# Altium schematic symbol library Regulator_Linear.SchLib: 1620 symbols (part 7 of 16)
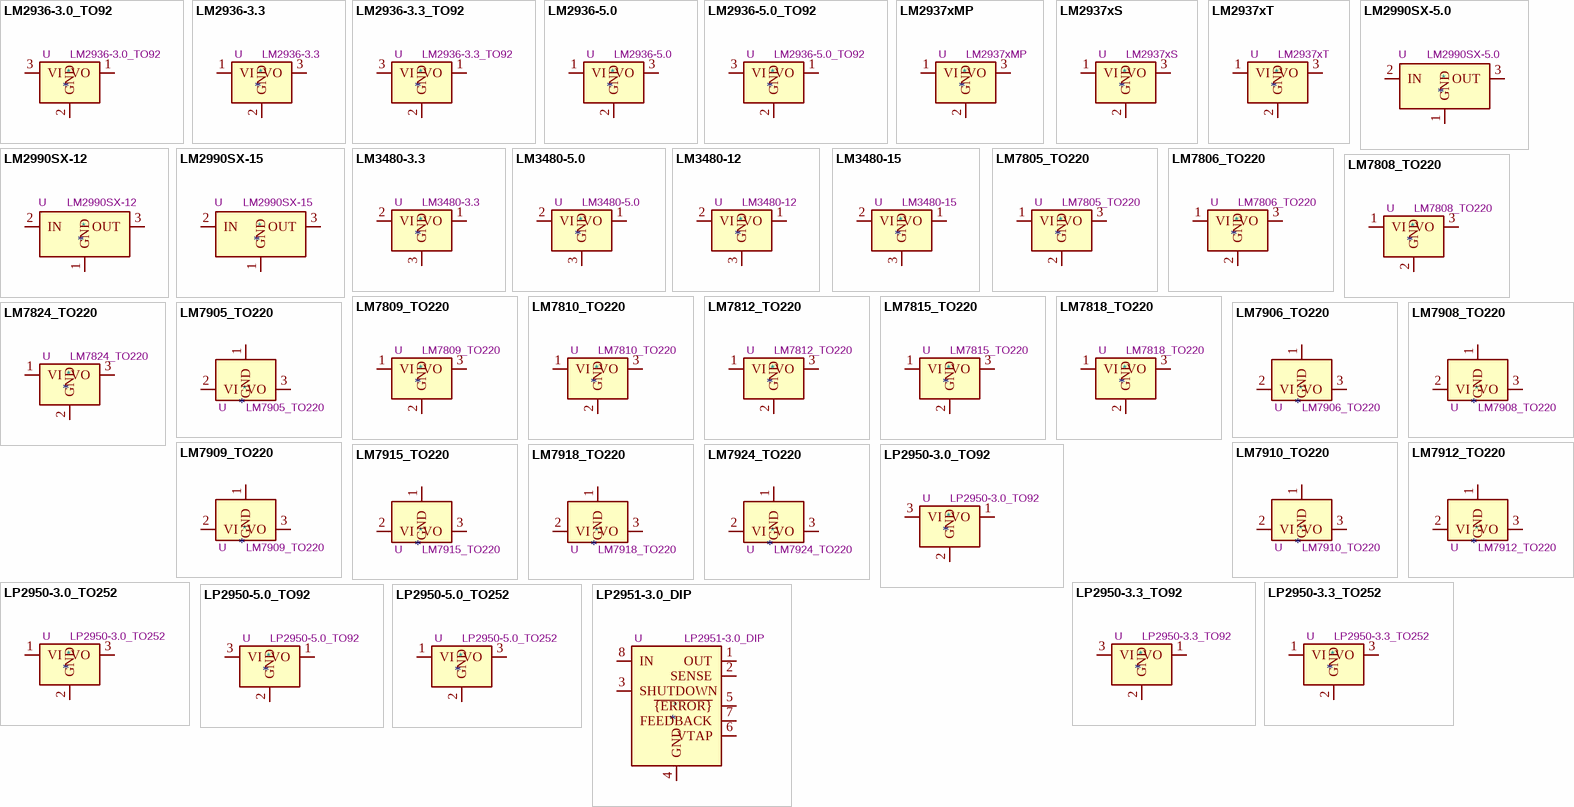
[diagram p46: symbols LM2936-3.0_TO92 to LP2951-3.0_DIP]

## LM7915_TO220
designator *  value LM7915_TO220  Reference: U
Negative 1A 35V Linear Regulator, Fixed Output 15V, TO-220; ki_keywords: Voltage Regulator 1A Negative; ki_fp_filters: TO?220*; Footprint: Package_TO_SOT_THT:TO-220-3_Vertical; Datasheet: https://www.onsemi.com/pub/Collateral/MC7900-D.PDF; Description_: Negative 1A 35V Linear Regulator, Fixed Output 15V, TO-220
pins: 1 GND, 2 VI, 3 VO

## LM7918_TO220
designator *  value LM7918_TO220  Reference: U
Negative 1A 35V Linear Regulator, Fixed Output 18V, TO-220; ki_keywords: Voltage Regulator 1A Negative; ki_fp_filters: TO?220*; Footprint: Package_TO_SOT_THT:TO-220-3_Vertical; Datasheet: https://www.onsemi.com/pub/Collateral/MC7900-D.PDF; Description_: Negative 1A 35V Linear Regulator, Fixed Output 18V, TO-220
pins: 1 GND, 2 VI, 3 VO

## LM7924_TO220
designator *  value LM7924_TO220  Reference: U
Negative 1A 35V Linear Regulator, Fixed Output 24V, TO-220; ki_keywords: Voltage Regulator 1A Negative; ki_fp_filters: TO?220*; Footprint: Package_TO_SOT_THT:TO-220-3_Vertical; Datasheet: https://www.onsemi.com/pub/Collateral/MC7900-D.PDF; Description_: Negative 1A 35V Linear Regulator, Fixed Output 24V, TO-220
pins: 1 GND, 2 VI, 3 VO

## LP2950-3.0_TO92
designator *  value LP2950-3.0_TO92  Reference: U
Positive 100mA 30V Linear Micropower Voltage Regulator, Fixed Output 3.0V, TO-92; ki_keywords: Micropower Voltage Regulator 100mA Positive; ki_fp_filters: TO?92*; Footprint: Package_TO_SOT_THT:TO-92_Inline; Datasheet: http://www.ti.com/lit/ds/symlink/lp2950.pdf; Description_: Positive 100mA 30V Linear Micropower Voltage Regulator, Fixed Output 3.0V, TO-92
pins: 1 VO, 2 GND, 3 VI

## LP2950-3.0_TO252
designator *  value LP2950-3.0_TO252  Reference: U
Positive 100mA 30V Linear Micropower Voltage Regulator, Fixed Output 3.0V, TO-252; ki_keywords: Micropower Voltage Regulator 100mA Positive; ki_fp_filters: TO?252*; Footprint: Package_TO_SOT_SMD:TO-252-2; Datasheet: http://www.ti.com/lit/ds/symlink/lp2950.pdf; Description_: Positive 100mA 30V Linear Micropower Voltage Regulator, Fixed Output 3.0V, TO-252
pins: 1 VI, 2 GND, 3 VO

## LP2950-3.3_TO92
designator *  value LP2950-3.3_TO92  Reference: U
Positive 100mA 30V Linear Micropower Voltage Regulator, Fixed Output 3.3V, TO-92; ki_keywords: Micropower Voltage Regulator 100mA Positive; ki_fp_filters: TO?92*; Footprint: Package_TO_SOT_THT:TO-92_Inline; Datasheet: http://www.ti.com/lit/ds/symlink/lp2950.pdf; Description_: Positive 100mA 30V Linear Micropower Voltage Regulator, Fixed Output 3.3V, TO-92
pins: 1 VO, 2 GND, 3 VI

## LP2950-3.3_TO252
designator *  value LP2950-3.3_TO252  Reference: U
Positive 100mA 30V Linear Micropower Voltage Regulator, Fixed Output 3.3V, TO-252; ki_keywords: Micropower Voltage Regulator 100mA Positive; ki_fp_filters: TO?252*; Footprint: Package_TO_SOT_SMD:TO-252-2; Datasheet: http://www.ti.com/lit/ds/symlink/lp2950.pdf; Description_: Positive 100mA 30V Linear Micropower Voltage Regulator, Fixed Output 3.3V, TO-252
pins: 1 VI, 2 GND, 3 VO

## LP2950-5.0_TO92
designator *  value LP2950-5.0_TO92  Reference: U
Micropower Voltage Regulators with Shutdown, 100mA, Fixed Output 5.0V, TO-92; ki_keywords: Micropower Voltage Regulator 100mA Positive; ki_fp_filters: TO?92*; Footprint: Package_TO_SOT_THT:TO-92_Inline; Datasheet: http://www.ti.com/lit/ds/symlink/lp2951.pdf; Description_: Micropower Voltage Regulators with Shutdown, 100mA, Fixed Output 5.0V, TO-92
pins: 1 VO, 2 GND, 3 VI

## LP2950-5.0_TO252
designator *  value LP2950-5.0_TO252  Reference: U
Positive 100mA 30V Linear Micropower Voltage Regulator, Fixed Output 5.0V, TO-252; ki_keywords: Micropower Voltage Regulator 100mA Positive; ki_fp_filters: TO?252*; Footprint: Package_TO_SOT_SMD:TO-252-2; Datasheet: http://www.ti.com/lit/ds/symlink/lp2950.pdf; Description_: Positive 100mA 30V Linear Micropower Voltage Regulator, Fixed Output 5.0V, TO-252
pins: 1 VI, 2 GND, 3 VO

## LP2951-3.0_DIP
designator *  value LP2951-3.0_DIP  Reference: U
Micropower Voltage Regulators with Shutdown, 100mA, Fixed Output 3.0V, LDO, DIP-8; ki_fp_filters: DIP*W7.62mm*; Footprint: Package_DIP:DIP-8_W7.62mm; Datasheet: http://www.ti.com/lit/ds/symlink/lp2951.pdf; Description_: Micropower Voltage Regulators with Shutdown, 100mA, Fixed Output 3.0V, LDO, DIP-8; ki_keywords: Micropower Voltage Regulators with Shutdown
pins: 1 OUT, 2 SENSE, 3 SHUTDOWN, 4 GND, 5 ~{{ERROR}}, 6 VTAP, 7 FEEDBACK, 8 IN

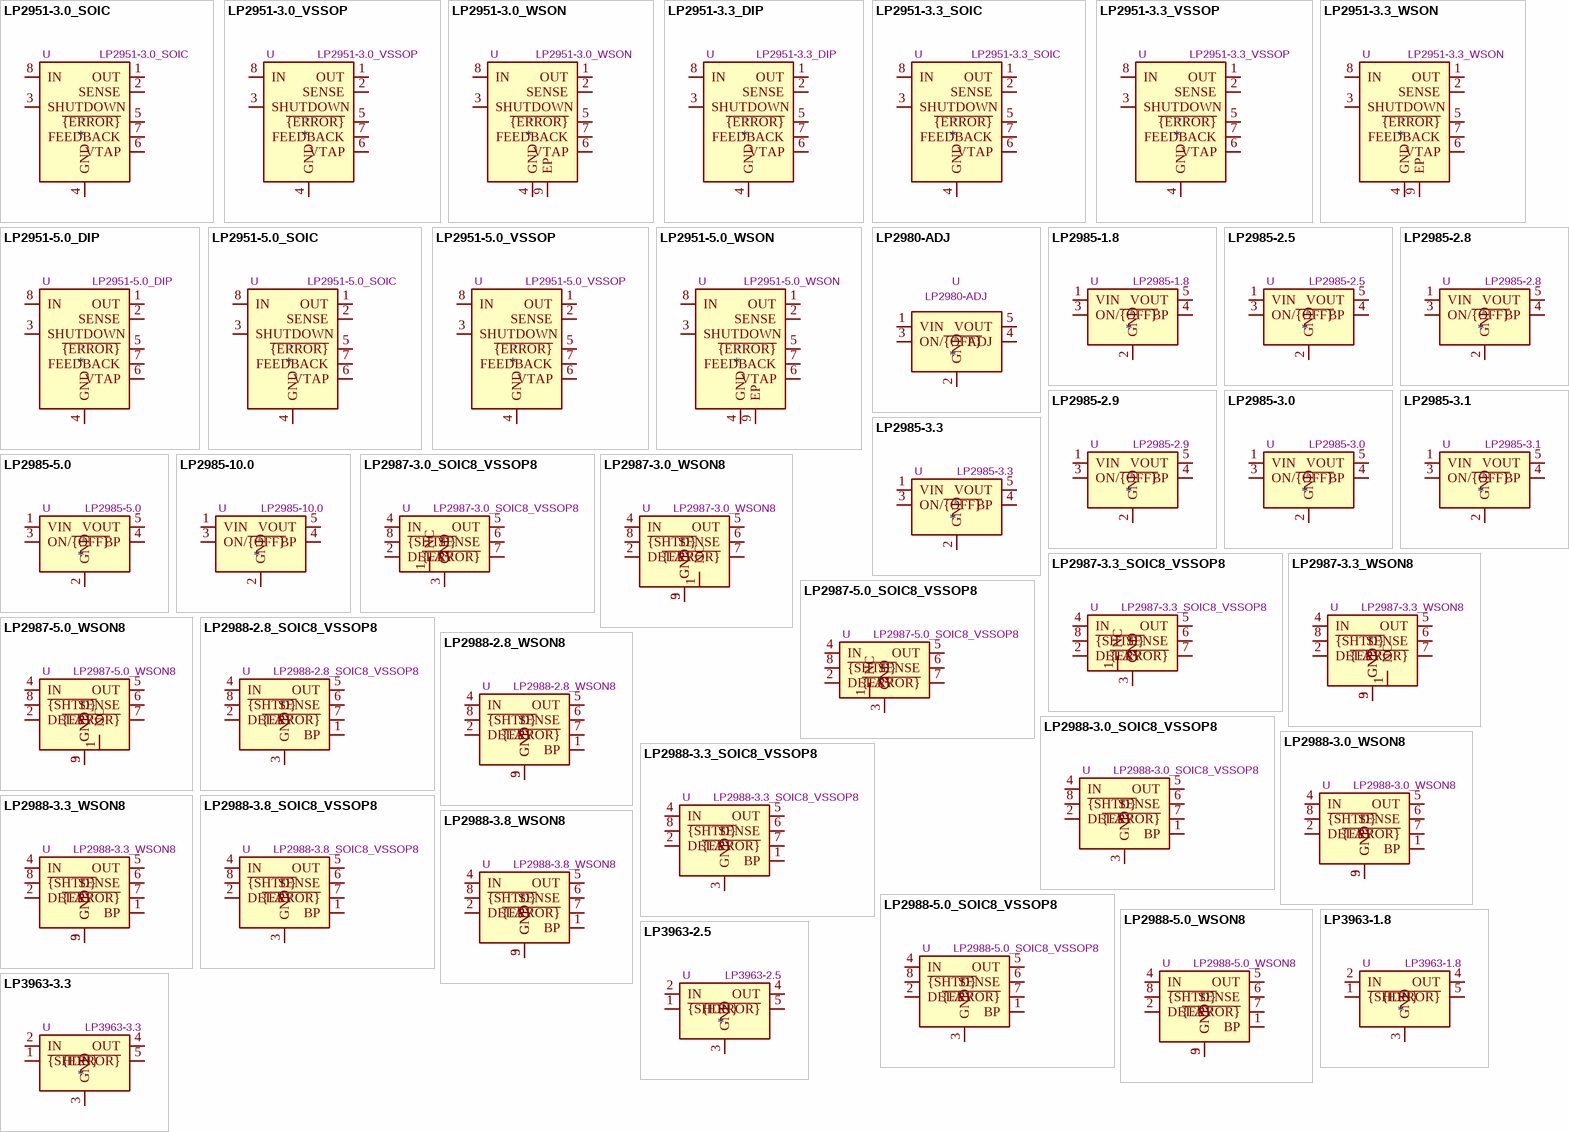
[diagram p16: symbols LP2951-3.0_SOIC to LP3963-3.3]

## LP2951-3.0_SOIC
designator *  value LP2951-3.0_SOIC  Reference: U
Micropower Voltage Regulators with Shutdown, 100mA, Fixed Output 3.0V, LDO, SOIC-8; ki_fp_filters: SOIC*3.9x4.9mm*P1.27mm*; Footprint: Package_SO:SOIC-8_3.9x4.9mm_P1.27mm; Datasheet: http://www.ti.com/lit/ds/symlink/lp2951.pdf; Description_: Micropower Voltage Regulators with Shutdown, 100mA, Fixed Output 3.0V, LDO, SOIC-8; ki_keywords: Micropower Voltage Regulators with Shutdown
pins: 1 OUT, 2 SENSE, 3 SHUTDOWN, 4 GND, 5 ~{{ERROR}}, 6 VTAP, 7 FEEDBACK, 8 IN

## LP2951-3.0_VSSOP
designator *  value LP2951-3.0_VSSOP  Reference: U
Micropower Voltage Regulators with Shutdown, 100mA, Fixed Output 3.0V, LDO, VSSOP-8; ki_fp_filters: VSSOP*3x3mm*P0.65mm*; Footprint: Package_SO:VSSOP-8_3x3mm_P0.65mm; Datasheet: http://www.ti.com/lit/ds/symlink/lp2951.pdf; Description_: Micropower Voltage Regulators with Shutdown, 100mA, Fixed Output 3.0V, LDO, VSSOP-8; ki_keywords: Micropower Voltage Regulators with Shutdown
pins: 1 OUT, 2 SENSE, 3 SHUTDOWN, 4 GND, 5 ~{{ERROR}}, 6 VTAP, 7 FEEDBACK, 8 IN

## LP2951-3.0_WSON
designator *  value LP2951-3.0_WSON  Reference: U
Micropower Voltage Regulators with Shutdown, 100mA, Fixed Output 3.0V, LDO, WSON-8; ki_fp_filters: WSON*1EP*3x3mm*P0.5mm*; Footprint: Package_SON:WSON-8-1EP_3x3mm_P0.5mm_EP1.2x2mm; Datasheet: http://www.ti.com/lit/ds/symlink/lp2951.pdf; Description_: Micropower Voltage Regulators with Shutdown, 100mA, Fixed Output 3.0V, LDO, WSON-8; ki_keywords: Micropower Voltage Regulators with Shutdown
pins: 1 OUT, 2 SENSE, 3 SHUTDOWN, 4 GND, 5 ~{{ERROR}}, 6 VTAP, 7 FEEDBACK, 8 IN, 9 EP

## LP2951-3.3_DIP
designator *  value LP2951-3.3_DIP  Reference: U
Micropower Voltage Regulators with Shutdown, 100mA, Fixed Output 3.3V, LDO, DIP-8; ki_fp_filters: DIP*W7.62mm*; Footprint: Package_DIP:DIP-8_W7.62mm; Datasheet: http://www.ti.com/lit/ds/symlink/lp2951.pdf; Description_: Micropower Voltage Regulators with Shutdown, 100mA, Fixed Output 3.3V, LDO, DIP-8; ki_keywords: Micropower Voltage Regulators with Shutdown
pins: 1 OUT, 2 SENSE, 3 SHUTDOWN, 4 GND, 5 ~{{ERROR}}, 6 VTAP, 7 FEEDBACK, 8 IN

## LP2951-3.3_SOIC
designator *  value LP2951-3.3_SOIC  Reference: U
Micropower Voltage Regulators with Shutdown, 100mA, Fixed Output 3.3V, LDO, SOIC-8; ki_fp_filters: SOIC*3.9x4.9mm*P1.27mm*; Footprint: Package_SO:SOIC-8_3.9x4.9mm_P1.27mm; Datasheet: http://www.ti.com/lit/ds/symlink/lp2951.pdf; Description_: Micropower Voltage Regulators with Shutdown, 100mA, Fixed Output 3.3V, LDO, SOIC-8; ki_keywords: Micropower Voltage Regulators with Shutdown
pins: 1 OUT, 2 SENSE, 3 SHUTDOWN, 4 GND, 5 ~{{ERROR}}, 6 VTAP, 7 FEEDBACK, 8 IN

## LP2951-3.3_VSSOP
designator *  value LP2951-3.3_VSSOP  Reference: U
Micropower Voltage Regulators with Shutdown, 100mA, Fixed Output 3.3V, LDO, VSSOP-8; ki_fp_filters: VSSOP*3x3mm*P0.65mm*; Footprint: Package_SO:VSSOP-8_3x3mm_P0.65mm; Datasheet: http://www.ti.com/lit/ds/symlink/lp2951.pdf; Description_: Micropower Voltage Regulators with Shutdown, 100mA, Fixed Output 3.3V, LDO, VSSOP-8; ki_keywords: Micropower Voltage Regulators with Shutdown
pins: 1 OUT, 2 SENSE, 3 SHUTDOWN, 4 GND, 5 ~{{ERROR}}, 6 VTAP, 7 FEEDBACK, 8 IN

## LP2951-3.3_WSON
designator *  value LP2951-3.3_WSON  Reference: U
Micropower Voltage Regulators with Shutdown, 100mA, Fixed Output 3.3V, LDO, WSON-8; ki_fp_filters: WSON*1EP*3x3mm*P0.5mm*; Footprint: Package_SON:WSON-8-1EP_3x3mm_P0.5mm_EP1.2x2mm; Datasheet: http://www.ti.com/lit/ds/symlink/lp2951.pdf; Description_: Micropower Voltage Regulators with Shutdown, 100mA, Fixed Output 3.3V, LDO, WSON-8; ki_keywords: Micropower Voltage Regulators with Shutdown
pins: 1 OUT, 2 SENSE, 3 SHUTDOWN, 4 GND, 5 ~{{ERROR}}, 6 VTAP, 7 FEEDBACK, 8 IN, 9 EP

## LP2951-5.0_DIP
designator *  value LP2951-5.0_DIP  Reference: U
Micropower Voltage Regulators with Shutdown, 100mA, Fixed Output 5.0V, LDO, DIP-8; ki_fp_filters: DIP*W7.62mm*; Footprint: Package_DIP:DIP-8_W7.62mm; Datasheet: http://www.ti.com/lit/ds/symlink/lp2951.pdf; Description_: Micropower Voltage Regulators with Shutdown, 100mA, Fixed Output 5.0V, LDO, DIP-8; ki_keywords: Micropower Voltage Regulators with Shutdown
pins: 1 OUT, 2 SENSE, 3 SHUTDOWN, 4 GND, 5 ~{{ERROR}}, 6 VTAP, 7 FEEDBACK, 8 IN

## LP2951-5.0_SOIC
designator *  value LP2951-5.0_SOIC  Reference: U
Micropower Voltage Regulators with Shutdown, 100mA, Fixed Output 5.0V, LDO, SOIC-8; ki_fp_filters: SOIC*3.9x4.9mm*P1.27mm*; Footprint: Package_SO:SOIC-8_3.9x4.9mm_P1.27mm; Datasheet: http://www.ti.com/lit/ds/symlink/lp2951.pdf; Description_: Micropower Voltage Regulators with Shutdown, 100mA, Fixed Output 5.0V, LDO, SOIC-8; ki_keywords: Micropower Voltage Regulators with Shutdown
pins: 1 OUT, 2 SENSE, 3 SHUTDOWN, 4 GND, 5 ~{{ERROR}}, 6 VTAP, 7 FEEDBACK, 8 IN

## LP2951-5.0_VSSOP
designator *  value LP2951-5.0_VSSOP  Reference: U
Micropower Voltage Regulators with Shutdown, 100mA, Fixed Output 5.0V, LDO, VSSOP-8; ki_fp_filters: VSSOP*3x3mm*P0.65mm*; Footprint: Package_SO:VSSOP-8_3x3mm_P0.65mm; Datasheet: http://www.ti.com/lit/ds/symlink/lp2951.pdf; Description_: Micropower Voltage Regulators with Shutdown, 100mA, Fixed Output 5.0V, LDO, VSSOP-8; ki_keywords: Micropower Voltage Regulators with Shutdown
pins: 1 OUT, 2 SENSE, 3 SHUTDOWN, 4 GND, 5 ~{{ERROR}}, 6 VTAP, 7 FEEDBACK, 8 IN

## LP2951-5.0_WSON
designator *  value LP2951-5.0_WSON  Reference: U
Micropower Voltage Regulators with Shutdown, 100mA, Fixed Output 5.0V, LDO, WSON-8; ki_fp_filters: WSON*1EP*3x3mm*P0.5mm*; Footprint: Package_SON:WSON-8-1EP_3x3mm_P0.5mm_EP1.2x2mm; Datasheet: http://www.ti.com/lit/ds/symlink/lp2951.pdf; Description_: Micropower Voltage Regulators with Shutdown, 100mA, Fixed Output 5.0V, LDO, WSON-8; ki_keywords: Micropower Voltage Regulators with Shutdown
pins: 1 OUT, 2 SENSE, 3 SHUTDOWN, 4 GND, 5 ~{{ERROR}}, 6 VTAP, 7 FEEDBACK, 8 IN, 9 EP

## LP2980-ADJ
designator *  value LP2980-ADJ  Reference: U
50mA 15V Low-noise Low-dropout Regulator, 1.23-15V adjustable output voltage, SOT-23-5; ki_keywords: LDO Voltage Regulator 50mA Positive; ki_fp_filters: SOT?23*; Footprint: Package_TO_SOT_SMD:SOT-23-5; Datasheet: http://www.ti.com/lit/ds/symlink/lp2980-adj.pdf; Description_: 50mA 15V Low-noise Low-dropout Regulator, 1.23-15V adjustable output voltage, SOT-23-5
pins: 1 VIN, 2 GND, 3 ON/~{{OFF}}, 4 ADJ, 5 VOUT

## LP2985-1.8
designator *  value LP2985-1.8  Reference: U
150mA 16V Low-noise Low-dropout Regulator With Shutdown, 1.8V output voltage, SOT-23-5; ki_keywords: LDO regulator linear  SOT-23-5; ki_fp_filters: SOT?23*; Footprint: Package_TO_SOT_SMD:SOT-23-5; Datasheet: http://www.ti.com/lit/ds/symlink/lp2985.pdf; Description_: 150mA 16V Low-noise Low-dropout Regulator With Shutdown, 1.8V output voltage, SOT-23-5
pins: 1 VIN, 2 GND, 3 ON/~{{OFF}}, 4 BP, 5 VOUT

## LP2985-2.5
designator *  value LP2985-2.5  Reference: U
150mA 16V Low-noise Low-dropout Regulator With Shutdown, 2.5V output voltage, SOT-23-5; ki_keywords: LDO regulator linear  SOT-23-5; ki_fp_filters: SOT?23*; Footprint: Package_TO_SOT_SMD:SOT-23-5; Datasheet: http://www.ti.com/lit/ds/symlink/lp2985.pdf; Description_: 150mA 16V Low-noise Low-dropout Regulator With Shutdown, 2.5V output voltage, SOT-23-5
pins: 1 VIN, 2 GND, 3 ON/~{{OFF}}, 4 BP, 5 VOUT

## LP2985-2.8
designator *  value LP2985-2.8  Reference: U
150mA 16V Low-noise Low-dropout Regulator With Shutdown, 2.8V output voltage, SOT-23-5; ki_keywords: LDO regulator linear  SOT-23-5; ki_fp_filters: SOT?23*; Footprint: Package_TO_SOT_SMD:SOT-23-5; Datasheet: http://www.ti.com/lit/ds/symlink/lp2985.pdf; Description_: 150mA 16V Low-noise Low-dropout Regulator With Shutdown, 2.8V output voltage, SOT-23-5
pins: 1 VIN, 2 GND, 3 ON/~{{OFF}}, 4 BP, 5 VOUT

## LP2985-2.9
designator *  value LP2985-2.9  Reference: U
150mA 16V Low-noise Low-dropout Regulator With Shutdown, 2.9V output voltage, SOT-23-5; ki_keywords: LDO regulator linear  SOT-23-5; ki_fp_filters: SOT?23*; Footprint: Package_TO_SOT_SMD:SOT-23-5; Datasheet: http://www.ti.com/lit/ds/symlink/lp2985.pdf; Description_: 150mA 16V Low-noise Low-dropout Regulator With Shutdown, 2.9V output voltage, SOT-23-5
pins: 1 VIN, 2 GND, 3 ON/~{{OFF}}, 4 BP, 5 VOUT

## LP2985-3.0
designator *  value LP2985-3.0  Reference: U
150mA 16V Low-noise Low-dropout Regulator With Shutdown, 3.0V output voltage, SOT-23-5; ki_keywords: LDO regulator linear  SOT-23-5; ki_fp_filters: SOT?23*; Footprint: Package_TO_SOT_SMD:SOT-23-5; Datasheet: http://www.ti.com/lit/ds/symlink/lp2985.pdf; Description_: 150mA 16V Low-noise Low-dropout Regulator With Shutdown, 3.0V output voltage, SOT-23-5
pins: 1 VIN, 2 GND, 3 ON/~{{OFF}}, 4 BP, 5 VOUT

## LP2985-3.1
designator *  value LP2985-3.1  Reference: U
150mA 16V Low-noise Low-dropout Regulator With Shutdown, 3.1V output voltage, SOT-23-5; ki_keywords: LDO regulator linear  SOT-23-5; ki_fp_filters: SOT?23*; Footprint: Package_TO_SOT_SMD:SOT-23-5; Datasheet: http://www.ti.com/lit/ds/symlink/lp2985.pdf; Description_: 150mA 16V Low-noise Low-dropout Regulator With Shutdown, 3.1V output voltage, SOT-23-5
pins: 1 VIN, 2 GND, 3 ON/~{{OFF}}, 4 BP, 5 VOUT

## LP2985-3.3
designator *  value LP2985-3.3  Reference: U
150mA 16V Low-noise Low-dropout Regulator With Shutdown, 3.3V output voltage, SOT-23-5; ki_keywords: LDO regulator linear  SOT-23-5; ki_fp_filters: SOT?23*; Footprint: Package_TO_SOT_SMD:SOT-23-5; Datasheet: http://www.ti.com/lit/ds/symlink/lp2985.pdf; Description_: 150mA 16V Low-noise Low-dropout Regulator With Shutdown, 3.3V output voltage, SOT-23-5
pins: 1 VIN, 2 GND, 3 ON/~{{OFF}}, 4 BP, 5 VOUT

## LP2985-5.0
designator *  value LP2985-5.0  Reference: U
150mA 16V Low-noise Low-dropout Regulator With Shutdown, 5.0V output voltage, SOT-23-5; ki_keywords: LDO regulator linear  SOT-23-5; ki_fp_filters: SOT?23*; Footprint: Package_TO_SOT_SMD:SOT-23-5; Datasheet: http://www.ti.com/lit/ds/symlink/lp2985.pdf; Description_: 150mA 16V Low-noise Low-dropout Regulator With Shutdown, 5.0V output voltage, SOT-23-5
pins: 1 VIN, 2 GND, 3 ON/~{{OFF}}, 4 BP, 5 VOUT

## LP2985-10.0
designator *  value LP2985-10.0  Reference: U
150mA 16V Low-noise Low-dropout Regulator With Shutdown, 10.0V output voltage, SOT-23-5; ki_keywords: LDO regulator linear  SOT-23-5; ki_fp_filters: SOT?23*; Footprint: Package_TO_SOT_SMD:SOT-23-5; Datasheet: http://www.ti.com/lit/ds/symlink/lp2985.pdf; Description_: 150mA 16V Low-noise Low-dropout Regulator With Shutdown, 10.0V output voltage, SOT-23-5
pins: 1 VIN, 2 GND, 3 ON/~{{OFF}}, 4 BP, 5 VOUT

## LP2987-3.0_SOIC8_VSSOP8
designator *  value LP2987-3.0_SOIC8_VSSOP8  Reference: U
200mA Linear LDO Regulator, MicroPower, Fixed Output 3.0V, SO8/MSOP8; ki_keywords: Linear LDO Regulator 200mA 5V; ki_fp_filters: MSOP*3x3mm*P0.65mm* SOIC*3.9x4.9mm*P1.27mm*; Datasheet: http://www.ti.com/lit/ds/symlink/lp2987.pdf; Description_: 200mA Linear LDO Regulator, MicroPower, Fixed Output 3.0V, SO8/MSOP8
pins: 1 NC, 2 DELAY, 3 GND, 4 IN, 5 OUT, 6 SENSE, 7 ~{{ERROR}}, 8 ~{{SHTD}}

## LP2987-3.0_WSON8
designator *  value LP2987-3.0_WSON8  Reference: U
200mA Linear LDO Regulator, MicroPower, Fixed Output 3.0V, WSON-8; ki_keywords: Linear LDO Regulator 200mA 5V; ki_fp_filters: WSON*1EP*4x4mm*P0.8mm*; Footprint: Package_SON:WSON-8-1EP_4x4mm_P0.8mm_EP2.2x3mm; Datasheet: http://www.ti.com/lit/ds/symlink/lp2987.pdf; Description_: 200mA Linear LDO Regulator, MicroPower, Fixed Output 3.0V, WSON-8
pins: 1 NC, 2 DELAY, 3 GND, 4 IN, 5 OUT, 6 SENSE, 7 ~{{ERROR}}, 8 ~{{SHTD}}, 9 GND

## LP2987-3.3_SOIC8_VSSOP8
designator *  value LP2987-3.3_SOIC8_VSSOP8  Reference: U
200mA Linear LDO Regulator, MicroPower, Fixed Output 3.3V, SO8/MSOP8; ki_keywords: Linear LDO Regulator 200mA 5V; ki_fp_filters: MSOP*3x3mm*P0.65mm* SOIC*3.9x4.9mm*P1.27mm*; Datasheet: http://www.ti.com/lit/ds/symlink/lp2987.pdf; Description_: 200mA Linear LDO Regulator, MicroPower, Fixed Output 3.3V, SO8/MSOP8
pins: 1 NC, 2 DELAY, 3 GND, 4 IN, 5 OUT, 6 SENSE, 7 ~{{ERROR}}, 8 ~{{SHTD}}

## LP2987-3.3_WSON8
designator *  value LP2987-3.3_WSON8  Reference: U
200mA Linear LDO Regulator, MicroPower, Fixed Output 3.3V, WSON-8; ki_keywords: Linear LDO Regulator 200mA 5V; ki_fp_filters: WSON*1EP*4x4mm*P0.8mm*; Footprint: Package_SON:WSON-8-1EP_4x4mm_P0.8mm_EP2.2x3mm; Datasheet: http://www.ti.com/lit/ds/symlink/lp2987.pdf; Description_: 200mA Linear LDO Regulator, MicroPower, Fixed Output 3.3V, WSON-8
pins: 1 NC, 2 DELAY, 3 GND, 4 IN, 5 OUT, 6 SENSE, 7 ~{{ERROR}}, 8 ~{{SHTD}}, 9 GND

## LP2987-5.0_SOIC8_VSSOP8
designator *  value LP2987-5.0_SOIC8_VSSOP8  Reference: U
200mA Linear LDO Regulator, MicroPower, Fixed Output 5.0V, SO8/MSOP8; ki_keywords: Linear LDO Regulator 200mA 5V; ki_fp_filters: MSOP*3x3mm*P0.65mm* SOIC*3.9x4.9mm*P1.27mm*; Datasheet: http://www.ti.com/lit/ds/symlink/lp2987.pdf; Description_: 200mA Linear LDO Regulator, MicroPower, Fixed Output 5.0V, SO8/MSOP8
pins: 1 NC, 2 DELAY, 3 GND, 4 IN, 5 OUT, 6 SENSE, 7 ~{{ERROR}}, 8 ~{{SHTD}}

## LP2987-5.0_WSON8
designator *  value LP2987-5.0_WSON8  Reference: U
200mA Linear LDO Regulator, MicroPower, Fixed Output 5.0V, WSON-8; ki_keywords: Linear LDO Regulator 200mA 5V; ki_fp_filters: WSON*1EP*4x4mm*P0.8mm*; Footprint: Package_SON:WSON-8-1EP_4x4mm_P0.8mm_EP2.2x3mm; Datasheet: http://www.ti.com/lit/ds/symlink/lp2987.pdf; Description_: 200mA Linear LDO Regulator, MicroPower, Fixed Output 5.0V, WSON-8
pins: 1 NC, 2 DELAY, 3 GND, 4 IN, 5 OUT, 6 SENSE, 7 ~{{ERROR}}, 8 ~{{SHTD}}, 9 GND

## LP2988-2.8_SOIC8_VSSOP8
designator *  value LP2988-2.8_SOIC8_VSSOP8  Reference: U
200mA Linear LDO Regulator, Low Noise, MicroPower, Fixed Output 2.8V, SO8/MSOP8; ki_keywords: Linear LDO Regulator 200mA 5V; ki_fp_filters: MSOP*3x3mm*P0.65mm* SOIC*3.9x4.9mm*P1.27mm*; Datasheet: http://www.ti.com/lit/ds/symlink/lp2987.pdf; Description_: 200mA Linear LDO Regulator, Low Noise, MicroPower, Fixed Output 2.8V, SO8/MSOP8
pins: 1 BP, 2 DELAY, 3 GND, 4 IN, 5 OUT, 6 SENSE, 7 ~{{ERROR}}, 8 ~{{SHTD}}

## LP2988-2.8_WSON8
designator *  value LP2988-2.8_WSON8  Reference: U
200mA Linear LDO Regulator, Low Noise, MicroPower, Fixed Output 2.8V, WSON-8; ki_keywords: Linear LDO Regulator 200mA 5V; ki_fp_filters: WSON*1EP*4x4mm*P0.8mm*; Footprint: Package_SON:WSON-8-1EP_4x4mm_P0.8mm_EP2.2x3mm; Datasheet: http://www.ti.com/lit/ds/symlink/lp2987.pdf; Description_: 200mA Linear LDO Regulator, Low Noise, MicroPower, Fixed Output 2.8V, WSON-8
pins: 1 BP, 2 DELAY, 3 GND, 4 IN, 5 OUT, 6 SENSE, 7 ~{{ERROR}}, 8 ~{{SHTD}}, 9 GND

## LP2988-3.0_SOIC8_VSSOP8
designator *  value LP2988-3.0_SOIC8_VSSOP8  Reference: U
200mA Linear LDO Regulator, Low Noise, MicroPower, Fixed Output 3.0V, SO8/MSOP8; ki_keywords: Linear LDO Regulator 200mA 5V; ki_fp_filters: MSOP*3x3mm*P0.65mm* SOIC*3.9x4.9mm*P1.27mm*; Datasheet: http://www.ti.com/lit/ds/symlink/lp2987.pdf; Description_: 200mA Linear LDO Regulator, Low Noise, MicroPower, Fixed Output 3.0V, SO8/MSOP8
pins: 1 BP, 2 DELAY, 3 GND, 4 IN, 5 OUT, 6 SENSE, 7 ~{{ERROR}}, 8 ~{{SHTD}}

## LP2988-3.0_WSON8
designator *  value LP2988-3.0_WSON8  Reference: U
200mA Linear LDO Regulator, Low Noise, MicroPower, Fixed Output 3.0V, WSON-8; ki_keywords: Linear LDO Regulator 200mA 5V; ki_fp_filters: WSON*1EP*4x4mm*P0.8mm*; Footprint: Package_SON:WSON-8-1EP_4x4mm_P0.8mm_EP2.2x3mm; Datasheet: http://www.ti.com/lit/ds/symlink/lp2987.pdf; Description_: 200mA Linear LDO Regulator, Low Noise, MicroPower, Fixed Output 3.0V, WSON-8
pins: 1 BP, 2 DELAY, 3 GND, 4 IN, 5 OUT, 6 SENSE, 7 ~{{ERROR}}, 8 ~{{SHTD}}, 9 GND

## LP2988-3.3_SOIC8_VSSOP8
designator *  value LP2988-3.3_SOIC8_VSSOP8  Reference: U
200mA Linear LDO Regulator, Low Noise, MicroPower, Fixed Output 3.3V, SO8/MSOP8; ki_keywords: Linear LDO Regulator 200mA 5V; ki_fp_filters: MSOP*3x3mm*P0.65mm* SOIC*3.9x4.9mm*P1.27mm*; Datasheet: http://www.ti.com/lit/ds/symlink/lp2987.pdf; Description_: 200mA Linear LDO Regulator, Low Noise, MicroPower, Fixed Output 3.3V, SO8/MSOP8
pins: 1 BP, 2 DELAY, 3 GND, 4 IN, 5 OUT, 6 SENSE, 7 ~{{ERROR}}, 8 ~{{SHTD}}

## LP2988-3.3_WSON8
designator *  value LP2988-3.3_WSON8  Reference: U
200mA Linear LDO Regulator, Low Noise, MicroPower, Fixed Output 3.3V, WSON-8; ki_keywords: Linear LDO Regulator 200mA 5V; ki_fp_filters: WSON*1EP*4x4mm*P0.8mm*; Footprint: Package_SON:WSON-8-1EP_4x4mm_P0.8mm_EP2.2x3mm; Datasheet: http://www.ti.com/lit/ds/symlink/lp2987.pdf; Description_: 200mA Linear LDO Regulator, Low Noise, MicroPower, Fixed Output 3.3V, WSON-8
pins: 1 BP, 2 DELAY, 3 GND, 4 IN, 5 OUT, 6 SENSE, 7 ~{{ERROR}}, 8 ~{{SHTD}}, 9 GND

## LP2988-3.8_SOIC8_VSSOP8
designator *  value LP2988-3.8_SOIC8_VSSOP8  Reference: U
200mA Linear LDO Regulator, Low Noise, MicroPower, Fixed Output 3.8V, SO8/MSOP8; ki_keywords: Linear LDO Regulator 200mA 5V; ki_fp_filters: MSOP*3x3mm*P0.65mm* SOIC*3.9x4.9mm*P1.27mm*; Datasheet: http://www.ti.com/lit/ds/symlink/lp2987.pdf; Description_: 200mA Linear LDO Regulator, Low Noise, MicroPower, Fixed Output 3.8V, SO8/MSOP8
pins: 1 BP, 2 DELAY, 3 GND, 4 IN, 5 OUT, 6 SENSE, 7 ~{{ERROR}}, 8 ~{{SHTD}}

## LP2988-3.8_WSON8
designator *  value LP2988-3.8_WSON8  Reference: U
200mA Linear LDO Regulator, Low Noise, MicroPower, Fixed Output 3.8V, WSON-8; ki_keywords: Linear LDO Regulator 200mA 5V; ki_fp_filters: WSON*1EP*4x4mm*P0.8mm*; Footprint: Package_SON:WSON-8-1EP_4x4mm_P0.8mm_EP2.2x3mm; Datasheet: http://www.ti.com/lit/ds/symlink/lp2987.pdf; Description_: 200mA Linear LDO Regulator, Low Noise, MicroPower, Fixed Output 3.8V, WSON-8
pins: 1 BP, 2 DELAY, 3 GND, 4 IN, 5 OUT, 6 SENSE, 7 ~{{ERROR}}, 8 ~{{SHTD}}, 9 GND

## LP2988-5.0_SOIC8_VSSOP8
designator *  value LP2988-5.0_SOIC8_VSSOP8  Reference: U
200mA Linear LDO Regulator, Low Noise, MicroPower, Fixed Output 5.0V, SO8/MSOP8; ki_keywords: Linear LDO Regulator 200mA 5V; ki_fp_filters: MSOP*3x3mm*P0.65mm* SOIC*3.9x4.9mm*P1.27mm*; Datasheet: http://www.ti.com/lit/ds/symlink/lp2987.pdf; Description_: 200mA Linear LDO Regulator, Low Noise, MicroPower, Fixed Output 5.0V, SO8/MSOP8
pins: 1 BP, 2 DELAY, 3 GND, 4 IN, 5 OUT, 6 SENSE, 7 ~{{ERROR}}, 8 ~{{SHTD}}

## LP2988-5.0_WSON8
designator *  value LP2988-5.0_WSON8  Reference: U
200mA Linear LDO Regulator, Low Noise, MicroPower, Fixed Output 5.0V, WSON-8; ki_keywords: Linear LDO Regulator 200mA 5V; ki_fp_filters: WSON*1EP*4x4mm*P0.8mm*; Footprint: Package_SON:WSON-8-1EP_4x4mm_P0.8mm_EP2.2x3mm; Datasheet: http://www.ti.com/lit/ds/symlink/lp2987.pdf; Description_: 200mA Linear LDO Regulator, Low Noise, MicroPower, Fixed Output 5.0V, WSON-8
pins: 1 BP, 2 DELAY, 3 GND, 4 IN, 5 OUT, 6 SENSE, 7 ~{{ERROR}}, 8 ~{{SHTD}}, 9 GND

## LP3963-1.8
designator *  value LP3963-1.8  Reference: U
3A Fast Ultra Low Dropout Linear Regulator, 1.8V output voltage, TO-220-5/TO-263-5; ki_keywords: LDO Linear Regulator; ki_fp_filters: TO?220*Vertical*StaggerOdd* TO?263*TabPin3*; Datasheet: http://www.ti.com/lit/ds/symlink/lp3966.pdf; Description_: 3A Fast Ultra Low Dropout Linear Regulator, 1.8V output voltage, TO-220-5/TO-263-5
pins: 1 ~{{SHDN}}, 2 IN, 3 GND, 4 OUT, 5 ~{{ERROR}}

## LP3963-2.5
designator *  value LP3963-2.5  Reference: U
3A Fast Ultra Low Dropout Linear Regulator, 2.5V output voltage, TO-220-5/TO-263-5; ki_keywords: LDO Linear Regulator; ki_fp_filters: TO?220*Vertical*StaggerOdd* TO?263*TabPin3*; Datasheet: http://www.ti.com/lit/ds/symlink/lp3966.pdf; Description_: 3A Fast Ultra Low Dropout Linear Regulator, 2.5V output voltage, TO-220-5/TO-263-5
pins: 1 ~{{SHDN}}, 2 IN, 3 GND, 4 OUT, 5 ~{{ERROR}}

## LP3963-3.3
designator *  value LP3963-3.3  Reference: U
3A Fast Ultra Low Dropout Linear Regulator, 3.3V output voltage, TO-220-5/TO-263-5; ki_keywords: LDO Linear Regulator; ki_fp_filters: TO?220*Vertical*StaggerOdd* TO?263*TabPin3*; Datasheet: http://www.ti.com/lit/ds/symlink/lp3966.pdf; Description_: 3A Fast Ultra Low Dropout Linear Regulator, 3.3V output voltage, TO-220-5/TO-263-5
pins: 1 ~{{SHDN}}, 2 IN, 3 GND, 4 OUT, 5 ~{{ERROR}}

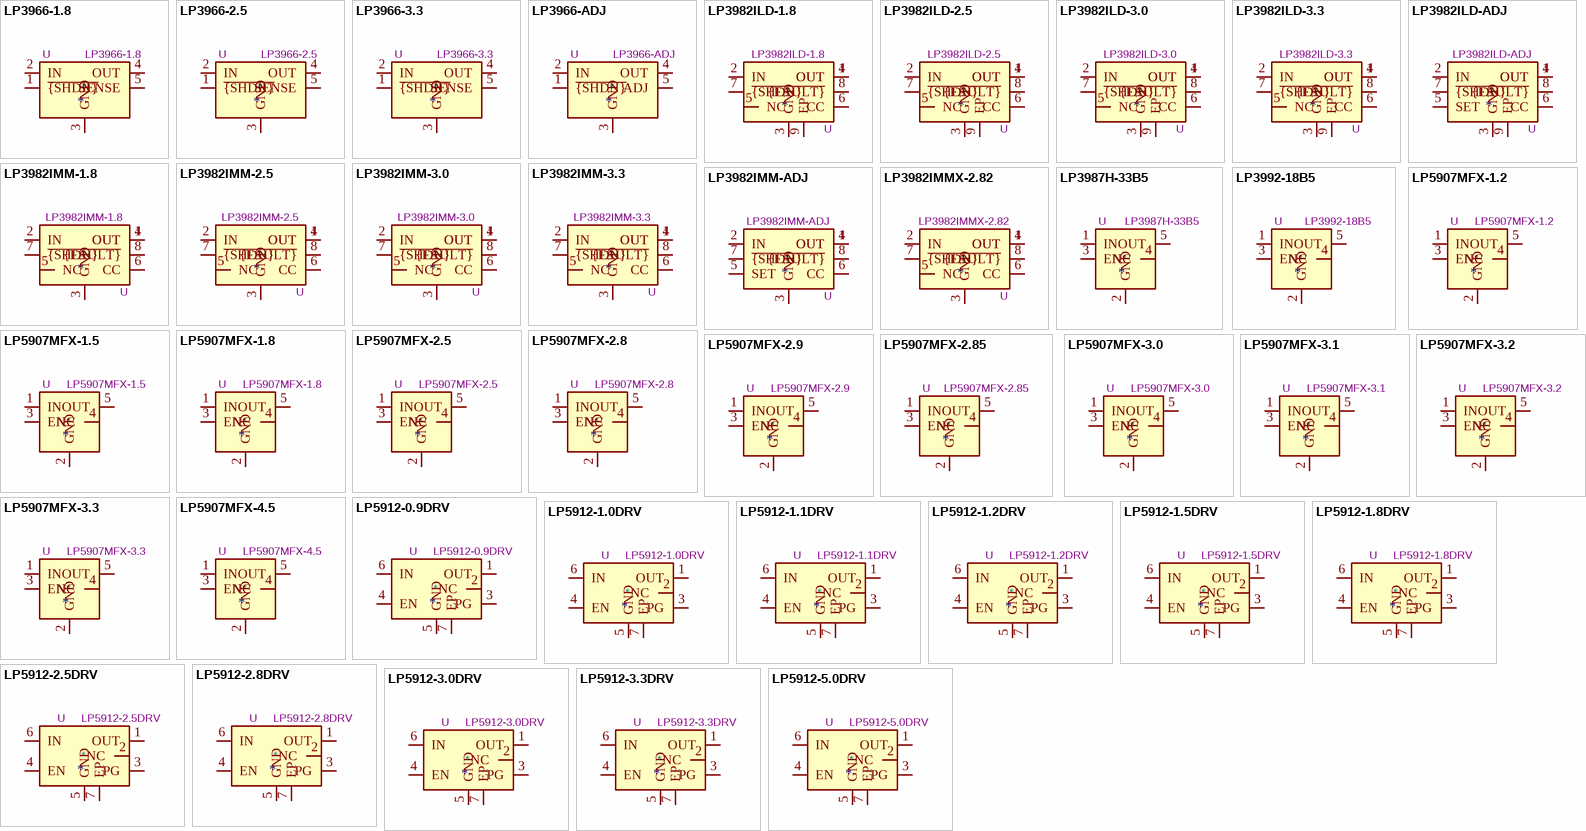
[diagram p17: symbols LP3966-1.8 to LP5912-5.0DRV]

## LP3966-1.8
designator *  value LP3966-1.8  Reference: U
3A Fast Ultra Low Dropout Linear Regulator, 1.8V output voltage, TO-220-5/TO-263-5; ki_keywords: LDO Linear Regulator; ki_fp_filters: TO?220*Vertical*StaggerOdd* TO?263*TabPin3*; Datasheet: http://www.ti.com/lit/ds/symlink/lp3966.pdf; Description_: 3A Fast Ultra Low Dropout Linear Regulator, 1.8V output voltage, TO-220-5/TO-263-5
pins: 1 ~{{SHDN}}, 2 IN, 3 GND, 4 OUT, 5 SENSE

## LP3966-2.5
designator *  value LP3966-2.5  Reference: U
3A Fast Ultra Low Dropout Linear Regulator, 2.5V output voltage, TO-220-5/TO-263-5; ki_keywords: LDO Linear Regulator; ki_fp_filters: TO?220*Vertical*StaggerOdd* TO?263*TabPin3*; Datasheet: http://www.ti.com/lit/ds/symlink/lp3966.pdf; Description_: 3A Fast Ultra Low Dropout Linear Regulator, 2.5V output voltage, TO-220-5/TO-263-5
pins: 1 ~{{SHDN}}, 2 IN, 3 GND, 4 OUT, 5 SENSE

## LP3966-3.3
designator *  value LP3966-3.3  Reference: U
3A Fast Ultra Low Dropout Linear Regulator, 3.3V output voltage, TO-220-5/TO-263-5; ki_keywords: LDO Linear Regulator; ki_fp_filters: TO?220*Vertical*StaggerOdd* TO?263*TabPin3*; Datasheet: http://www.ti.com/lit/ds/symlink/lp3966.pdf; Description_: 3A Fast Ultra Low Dropout Linear Regulator, 3.3V output voltage, TO-220-5/TO-263-5
pins: 1 ~{{SHDN}}, 2 IN, 3 GND, 4 OUT, 5 SENSE

## LP3966-ADJ
designator *  value LP3966-ADJ  Reference: U
3A Fast Ultra Low Dropout Linear Regulator, adjustable output voltage, TO-220-5/TO-263-5; ki_keywords: LDO Linear Regulator adjustable; ki_fp_filters: TO?220*Vertical*StaggerOdd* TO?263*TabPin3*; Datasheet: http://www.ti.com/lit/ds/symlink/lp3966.pdf; Description_: 3A Fast Ultra Low Dropout Linear Regulator, adjustable output voltage, TO-220-5/TO-263-5
pins: 1 ~{{SHDN}}, 2 IN, 3 GND, 4 OUT, 5 ADJ

## LP3982ILD-1.8
designator *  value LP3982ILD-1.8  Reference: U
1.8V, 300mA, Micropower, Ultra-Low-Dropout, Low-Noise CMOS Regulator, WSON-8; ki_keywords: linear regulator; ki_fp_filters: WSON*1EP*3x2.5mm*P0.5mm*; Footprint: Package_SON:WSON-8-1EP_3x2.5mm_P0.5mm_EP1.2x1.5mm_PullBack_ThermalVias; Datasheet: http://www.ti.com/lit/ds/symlink/lp3982.pdf; Description_: 1.8V, 300mA, Micropower, Ultra-Low-Dropout, Low-Noise CMOS Regulator, WSON-8
pins: 1 OUT, 2 IN, 3 GND, 4 OUT, 5 NC, 6 CC, 7 ~{{SHDN}}, 8 ~{{FAULT}}, 9 EP

## LP3982ILD-2.5
designator *  value LP3982ILD-2.5  Reference: U
2.5V, 300mA, Micropower, Ultra-Low-Dropout, Low-Noise CMOS Regulator, WSON-8; ki_keywords: linear regulator; ki_fp_filters: WSON*1EP*3x2.5mm*P0.5mm*; Footprint: Package_SON:WSON-8-1EP_3x2.5mm_P0.5mm_EP1.2x1.5mm_PullBack_ThermalVias; Datasheet: http://www.ti.com/lit/ds/symlink/lp3982.pdf; Description_: 2.5V, 300mA, Micropower, Ultra-Low-Dropout, Low-Noise CMOS Regulator, WSON-8
pins: 1 OUT, 2 IN, 3 GND, 4 OUT, 5 NC, 6 CC, 7 ~{{SHDN}}, 8 ~{{FAULT}}, 9 EP

## LP3982ILD-3.0
designator *  value LP3982ILD-3.0  Reference: U
3.0V, 300mA, Micropower, Ultra-Low-Dropout, Low-Noise CMOS Regulator, WSON-8; ki_keywords: linear regulator; ki_fp_filters: WSON*1EP*3x2.5mm*P0.5mm*; Footprint: Package_SON:WSON-8-1EP_3x2.5mm_P0.5mm_EP1.2x1.5mm_PullBack_ThermalVias; Datasheet: http://www.ti.com/lit/ds/symlink/lp3982.pdf; Description_: 3.0V, 300mA, Micropower, Ultra-Low-Dropout, Low-Noise CMOS Regulator, WSON-8
pins: 1 OUT, 2 IN, 3 GND, 4 OUT, 5 NC, 6 CC, 7 ~{{SHDN}}, 8 ~{{FAULT}}, 9 EP

## LP3982ILD-3.3
designator *  value LP3982ILD-3.3  Reference: U
3.3V, 300mA, Micropower, Ultra-Low-Dropout, Low-Noise CMOS Regulator, WSON-8; ki_keywords: linear regulator; ki_fp_filters: WSON*1EP*3x2.5mm*P0.5mm*; Footprint: Package_SON:WSON-8-1EP_3x2.5mm_P0.5mm_EP1.2x1.5mm_PullBack_ThermalVias; Datasheet: http://www.ti.com/lit/ds/symlink/lp3982.pdf; Description_: 3.3V, 300mA, Micropower, Ultra-Low-Dropout, Low-Noise CMOS Regulator, WSON-8
pins: 1 OUT, 2 IN, 3 GND, 4 OUT, 5 NC, 6 CC, 7 ~{{SHDN}}, 8 ~{{FAULT}}, 9 EP

## LP3982ILD-ADJ
designator *  value LP3982ILD-ADJ  Reference: U
300mA, Micropower, Ultra-Low-Dropout, Low-Noise Adjustable CMOS Regulator, WSON-8; ki_keywords: adjustable linear regulator; ki_fp_filters: WSON*1EP*3x2.5mm*P0.5mm*; Footprint: Package_SON:WSON-8-1EP_3x2.5mm_P0.5mm_EP1.2x1.5mm_PullBack_ThermalVias; Datasheet: http://www.ti.com/lit/ds/symlink/lp3982.pdf; Description_: 300mA, Micropower, Ultra-Low-Dropout, Low-Noise Adjustable CMOS Regulator, WSON-8
pins: 1 OUT, 2 IN, 3 GND, 4 OUT, 5 SET, 6 CC, 7 ~{{SHDN}}, 8 ~{{FAULT}}, 9 EP

## LP3982IMM-1.8
designator *  value LP3982IMM-1.8  Reference: U
1.8V, 300mA, Micropower, Ultra-Low-Dropout, Low-Noise CMOS Regulator, VSSOP-8; ki_keywords: linear regulator; ki_fp_filters: VSSOP*3x3mm*P0.65mm*; Footprint: Package_SO:VSSOP-8_3x3mm_P0.65mm; Datasheet: http://www.ti.com/lit/ds/symlink/lp3982.pdf; Description_: 1.8V, 300mA, Micropower, Ultra-Low-Dropout, Low-Noise CMOS Regulator, VSSOP-8
pins: 1 OUT, 2 IN, 3 GND, 4 OUT, 5 NC, 6 CC, 7 ~{{SHDN}}, 8 ~{{FAULT}}

## LP3982IMM-2.5
designator *  value LP3982IMM-2.5  Reference: U
2.5V, 300mA, Micropower, Ultra-Low-Dropout, Low-Noise CMOS Regulator, VSSOP-8; ki_keywords: linear regulator; ki_fp_filters: VSSOP*3x3mm*P0.65mm*; Footprint: Package_SO:VSSOP-8_3x3mm_P0.65mm; Datasheet: http://www.ti.com/lit/ds/symlink/lp3982.pdf; Description_: 2.5V, 300mA, Micropower, Ultra-Low-Dropout, Low-Noise CMOS Regulator, VSSOP-8
pins: 1 OUT, 2 IN, 3 GND, 4 OUT, 5 NC, 6 CC, 7 ~{{SHDN}}, 8 ~{{FAULT}}

## LP3982IMM-3.0
designator *  value LP3982IMM-3.0  Reference: U
3.0V, 300mA, Micropower, Ultra-Low-Dropout, Low-Noise CMOS Regulator, VSSOP-8; ki_keywords: linear regulator; ki_fp_filters: VSSOP*3x3mm*P0.65mm*; Footprint: Package_SO:VSSOP-8_3x3mm_P0.65mm; Datasheet: http://www.ti.com/lit/ds/symlink/lp3982.pdf; Description_: 3.0V, 300mA, Micropower, Ultra-Low-Dropout, Low-Noise CMOS Regulator, VSSOP-8
pins: 1 OUT, 2 IN, 3 GND, 4 OUT, 5 NC, 6 CC, 7 ~{{SHDN}}, 8 ~{{FAULT}}

## LP3982IMM-3.3
designator *  value LP3982IMM-3.3  Reference: U
3.3V, 300mA, Micropower, Ultra-Low-Dropout, Low-Noise CMOS Regulator, VSSOP-8; ki_keywords: linear regulator; ki_fp_filters: VSSOP*3x3mm*P0.65mm*; Footprint: Package_SO:VSSOP-8_3x3mm_P0.65mm; Datasheet: http://www.ti.com/lit/ds/symlink/lp3982.pdf; Description_: 3.3V, 300mA, Micropower, Ultra-Low-Dropout, Low-Noise CMOS Regulator, VSSOP-8
pins: 1 OUT, 2 IN, 3 GND, 4 OUT, 5 NC, 6 CC, 7 ~{{SHDN}}, 8 ~{{FAULT}}

## LP3982IMM-ADJ
designator *  value LP3982IMM-ADJ  Reference: U
300mA, Micropower, Ultra-Low-Dropout, Low-Noise Adjustable CMOS Regulator, VSSOP-8; ki_keywords: adjustable linear regulator; ki_fp_filters: VSSOP*3x3mm*P0.65mm*; Footprint: Package_SO:VSSOP-8_3x3mm_P0.65mm; Datasheet: http://www.ti.com/lit/ds/symlink/lp3982.pdf; Description_: 300mA, Micropower, Ultra-Low-Dropout, Low-Noise Adjustable CMOS Regulator, VSSOP-8
pins: 1 OUT, 2 IN, 3 GND, 4 OUT, 5 SET, 6 CC, 7 ~{{SHDN}}, 8 ~{{FAULT}}

## LP3982IMMX-2.82
designator *  value LP3982IMMX-2.82  Reference: U
2.82V, 300mA, Micropower, Ultra-Low-Dropout, Low-Noise CMOS Regulator, VSSOP-8; ki_keywords: linear regulator; ki_fp_filters: VSSOP*3x3mm*P0.65mm*; Footprint: Package_SO:VSSOP-8_3x3mm_P0.65mm; Datasheet: http://www.ti.com/lit/ds/symlink/lp3982.pdf; Description_: 2.82V, 300mA, Micropower, Ultra-Low-Dropout, Low-Noise CMOS Regulator, VSSOP-8
pins: 1 OUT, 2 IN, 3 GND, 4 OUT, 5 NC, 6 CC, 7 ~{{SHDN}}, 8 ~{{FAULT}}

## LP3987H-33B5
designator *  value LP3987H-33B5  Reference: U
LowPowerSemi, 600-mA Ultra-Low-Noise Low-IQ LDO, 3.3V, SOT-23; ki_keywords: Single Output Low-dropout LDO Low-Noise; ki_fp_filters: SOT?23*; Footprint: Package_TO_SOT_SMD:SOT-23-5; Datasheet: https://datasheet.lcsc.com/lcsc/2004271836_LOWPOWER-LP3987H-33B5F_C517256.pdf; Description_: LowPowerSemi, 600-mA Ultra-Low-Noise Low-IQ LDO, 3.3V, SOT-23
pins: 1 IN, 2 GND, 3 EN, 4 NC, 5 OUT

## LP3992-18B5
designator *  value LP3992-18B5  Reference: U
LowPowerSemi, 300-mA Ultra-Low-Noise Low-IQ LDO, 1.8V, SOT-23; ki_keywords: Single Output Low-dropout  LDO Low-Noise; ki_fp_filters: SOT?23*; Footprint: Package_TO_SOT_SMD:SOT-23-5; Datasheet: https://datasheet.lcsc.com/lcsc/2304140030_LOWPOWER-LP3992-18B5F_C324569.pdf; Description_: LowPowerSemi, 300-mA Ultra-Low-Noise Low-IQ LDO, 1.8V, SOT-23
pins: 1 IN, 2 GND, 3 EN, 4 NC, 5 OUT

## LP5907MFX-1.2
designator *  value LP5907MFX-1.2  Reference: U
250-mA Ultra-Low-Noise Low-IQ LDO, 1.2V, SOT-23; ki_keywords: Single Output LDO Low-Noise; ki_fp_filters: SOT?23*; Footprint: Package_TO_SOT_SMD:SOT-23-5; Datasheet: http://www.ti.com/lit/ds/symlink/lp5907.pdf; Description_: 250-mA Ultra-Low-Noise Low-IQ LDO, 1.2V, SOT-23
pins: 1 IN, 2 GND, 3 EN, 4 NC, 5 OUT

## LP5907MFX-1.5
designator *  value LP5907MFX-1.5  Reference: U
250-mA Ultra-Low-Noise Low-IQ LDO, 1.5V, SOT-23; ki_keywords: Single Output LDO Low-Noise; ki_fp_filters: SOT?23*; Footprint: Package_TO_SOT_SMD:SOT-23-5; Datasheet: http://www.ti.com/lit/ds/symlink/lp5907.pdf; Description_: 250-mA Ultra-Low-Noise Low-IQ LDO, 1.5V, SOT-23
pins: 1 IN, 2 GND, 3 EN, 4 NC, 5 OUT

## LP5907MFX-1.8
designator *  value LP5907MFX-1.8  Reference: U
250-mA Ultra-Low-Noise Low-IQ LDO, 1.8V, SOT-23; ki_keywords: Single Output LDO Low-Noise; ki_fp_filters: SOT?23*; Footprint: Package_TO_SOT_SMD:SOT-23-5; Datasheet: http://www.ti.com/lit/ds/symlink/lp5907.pdf; Description_: 250-mA Ultra-Low-Noise Low-IQ LDO, 1.8V, SOT-23
pins: 1 IN, 2 GND, 3 EN, 4 NC, 5 OUT

## LP5907MFX-2.5
designator *  value LP5907MFX-2.5  Reference: U
250-mA Ultra-Low-Noise Low-IQ LDO, 2.5V, SOT-23; ki_keywords: Single Output LDO Low-Noise; ki_fp_filters: SOT?23*; Footprint: Package_TO_SOT_SMD:SOT-23-5; Datasheet: http://www.ti.com/lit/ds/symlink/lp5907.pdf; Description_: 250-mA Ultra-Low-Noise Low-IQ LDO, 2.5V, SOT-23
pins: 1 IN, 2 GND, 3 EN, 4 NC, 5 OUT

## LP5907MFX-2.8
designator *  value LP5907MFX-2.8  Reference: U
250-mA Ultra-Low-Noise Low-IQ LDO, 2.8V, SOT-23; ki_keywords: Single Output LDO Low-Noise; ki_fp_filters: SOT?23*; Footprint: Package_TO_SOT_SMD:SOT-23-5; Datasheet: http://www.ti.com/lit/ds/symlink/lp5907.pdf; Description_: 250-mA Ultra-Low-Noise Low-IQ LDO, 2.8V, SOT-23
pins: 1 IN, 2 GND, 3 EN, 4 NC, 5 OUT

## LP5907MFX-2.9
designator *  value LP5907MFX-2.9  Reference: U
250-mA Ultra-Low-Noise Low-IQ LDO, 2.9V, SOT-23; ki_keywords: Single Output LDO Low-Noise; ki_fp_filters: SOT?23*; Footprint: Package_TO_SOT_SMD:SOT-23-5; Datasheet: http://www.ti.com/lit/ds/symlink/lp5907.pdf; Description_: 250-mA Ultra-Low-Noise Low-IQ LDO, 2.9V, SOT-23
pins: 1 IN, 2 GND, 3 EN, 4 NC, 5 OUT

## LP5907MFX-2.85
designator *  value LP5907MFX-2.85  Reference: U
250-mA Ultra-Low-Noise Low-IQ LDO, 2.85V, SOT-23; ki_keywords: Single Output LDO Low-Noise; ki_fp_filters: SOT?23*; Footprint: Package_TO_SOT_SMD:SOT-23-5; Datasheet: http://www.ti.com/lit/ds/symlink/lp5907.pdf; Description_: 250-mA Ultra-Low-Noise Low-IQ LDO, 2.85V, SOT-23
pins: 1 IN, 2 GND, 3 EN, 4 NC, 5 OUT

## LP5907MFX-3.0
designator *  value LP5907MFX-3.0  Reference: U
250-mA Ultra-Low-Noise Low-IQ LDO, 3.0V, SOT-23; ki_keywords: Single Output LDO Low-Noise; ki_fp_filters: SOT?23*; Footprint: Package_TO_SOT_SMD:SOT-23-5; Datasheet: http://www.ti.com/lit/ds/symlink/lp5907.pdf; Description_: 250-mA Ultra-Low-Noise Low-IQ LDO, 3.0V, SOT-23
pins: 1 IN, 2 GND, 3 EN, 4 NC, 5 OUT

## LP5907MFX-3.1
designator *  value LP5907MFX-3.1  Reference: U
250-mA Ultra-Low-Noise Low-IQ LDO, 3.1V, SOT-23; ki_keywords: Single Output LDO Low-Noise; ki_fp_filters: SOT?23*; Footprint: Package_TO_SOT_SMD:SOT-23-5; Datasheet: http://www.ti.com/lit/ds/symlink/lp5907.pdf; Description_: 250-mA Ultra-Low-Noise Low-IQ LDO, 3.1V, SOT-23
pins: 1 IN, 2 GND, 3 EN, 4 NC, 5 OUT

## LP5907MFX-3.2
designator *  value LP5907MFX-3.2  Reference: U
250-mA Ultra-Low-Noise Low-IQ LDO, 3.2V, SOT-23; ki_keywords: Single Output LDO Low-Noise; ki_fp_filters: SOT?23*; Footprint: Package_TO_SOT_SMD:SOT-23-5; Datasheet: http://www.ti.com/lit/ds/symlink/lp5907.pdf; Description_: 250-mA Ultra-Low-Noise Low-IQ LDO, 3.2V, SOT-23
pins: 1 IN, 2 GND, 3 EN, 4 NC, 5 OUT

## LP5907MFX-3.3
designator *  value LP5907MFX-3.3  Reference: U
250-mA Ultra-Low-Noise Low-IQ LDO, 3.3V, SOT-23; ki_keywords: Single Output LDO Low-Noise; ki_fp_filters: SOT?23*; Footprint: Package_TO_SOT_SMD:SOT-23-5; Datasheet: http://www.ti.com/lit/ds/symlink/lp5907.pdf; Description_: 250-mA Ultra-Low-Noise Low-IQ LDO, 3.3V, SOT-23
pins: 1 IN, 2 GND, 3 EN, 4 NC, 5 OUT

## LP5907MFX-4.5
designator *  value LP5907MFX-4.5  Reference: U
250-mA Ultra-Low-Noise Low-IQ LDO, 4.5V, SOT-23; ki_keywords: Single Output LDO Low-Noise; ki_fp_filters: SOT?23*; Footprint: Package_TO_SOT_SMD:SOT-23-5; Datasheet: http://www.ti.com/lit/ds/symlink/lp5907.pdf; Description_: 250-mA Ultra-Low-Noise Low-IQ LDO, 4.5V, SOT-23
pins: 1 IN, 2 GND, 3 EN, 4 NC, 5 OUT

## LP5912-0.9DRV
designator *  value LP5912-0.9DRV  Reference: U
500-mA Ultra-Low-Noise Low-IQ LDO, 0.9V, WSON-6; ki_keywords: Single Output LDO Low-Noise; ki_fp_filters: WSON*1EP*2x2mm*P0.65mm*; Footprint: Package_SON:WSON-6-1EP_2x2mm_P0.65mm_EP1x1.6mm_ThermalVias; Datasheet: http://www.ti.com/lit/ds/symlink/lp5912.pdf; Description_: 500-mA Ultra-Low-Noise Low-IQ LDO, 0.9V, WSON-6
pins: 1 OUT, 2 NC, 3 PG, 4 EN, 5 GND, 6 IN, 7 EP

## LP5912-1.0DRV
designator *  value LP5912-1.0DRV  Reference: U
500-mA Ultra-Low-Noise Low-IQ LDO, 1.0V, WSON-6; ki_keywords: Single Output LDO Low-Noise; ki_fp_filters: WSON*1EP*2x2mm*P0.65mm*; Footprint: Package_SON:WSON-6-1EP_2x2mm_P0.65mm_EP1x1.6mm_ThermalVias; Datasheet: http://www.ti.com/lit/ds/symlink/lp5912.pdf; Description_: 500-mA Ultra-Low-Noise Low-IQ LDO, 1.0V, WSON-6
pins: 1 OUT, 2 NC, 3 PG, 4 EN, 5 GND, 6 IN, 7 EP

## LP5912-1.1DRV
designator *  value LP5912-1.1DRV  Reference: U
500-mA Ultra-Low-Noise Low-IQ LDO, 1.1V, WSON-6; ki_keywords: Single Output LDO Low-Noise; ki_fp_filters: WSON*1EP*2x2mm*P0.65mm*; Footprint: Package_SON:WSON-6-1EP_2x2mm_P0.65mm_EP1x1.6mm_ThermalVias; Datasheet: http://www.ti.com/lit/ds/symlink/lp5912.pdf; Description_: 500-mA Ultra-Low-Noise Low-IQ LDO, 1.1V, WSON-6
pins: 1 OUT, 2 NC, 3 PG, 4 EN, 5 GND, 6 IN, 7 EP

## LP5912-1.2DRV
designator *  value LP5912-1.2DRV  Reference: U
500-mA Ultra-Low-Noise Low-IQ LDO, 1.2V, WSON-6; ki_keywords: Single Output LDO Low-Noise; ki_fp_filters: WSON*1EP*2x2mm*P0.65mm*; Footprint: Package_SON:WSON-6-1EP_2x2mm_P0.65mm_EP1x1.6mm_ThermalVias; Datasheet: http://www.ti.com/lit/ds/symlink/lp5912.pdf; Description_: 500-mA Ultra-Low-Noise Low-IQ LDO, 1.2V, WSON-6
pins: 1 OUT, 2 NC, 3 PG, 4 EN, 5 GND, 6 IN, 7 EP

## LP5912-1.5DRV
designator *  value LP5912-1.5DRV  Reference: U
500-mA Ultra-Low-Noise Low-IQ LDO, 1.5V, WSON-6; ki_keywords: Single Output LDO Low-Noise; ki_fp_filters: WSON*1EP*2x2mm*P0.65mm*; Footprint: Package_SON:WSON-6-1EP_2x2mm_P0.65mm_EP1x1.6mm_ThermalVias; Datasheet: http://www.ti.com/lit/ds/symlink/lp5912.pdf; Description_: 500-mA Ultra-Low-Noise Low-IQ LDO, 1.5V, WSON-6
pins: 1 OUT, 2 NC, 3 PG, 4 EN, 5 GND, 6 IN, 7 EP

## LP5912-1.8DRV
designator *  value LP5912-1.8DRV  Reference: U
500-mA Ultra-Low-Noise Low-IQ LDO, 1.8V, WSON-6; ki_keywords: Single Output LDO Low-Noise; ki_fp_filters: WSON*1EP*2x2mm*P0.65mm*; Footprint: Package_SON:WSON-6-1EP_2x2mm_P0.65mm_EP1x1.6mm_ThermalVias; Datasheet: http://www.ti.com/lit/ds/symlink/lp5912.pdf; Description_: 500-mA Ultra-Low-Noise Low-IQ LDO, 1.8V, WSON-6
pins: 1 OUT, 2 NC, 3 PG, 4 EN, 5 GND, 6 IN, 7 EP

## LP5912-2.5DRV
designator *  value LP5912-2.5DRV  Reference: U
500-mA Ultra-Low-Noise Low-IQ LDO, 2.5V, WSON-6; ki_keywords: Single Output LDO Low-Noise; ki_fp_filters: WSON*1EP*2x2mm*P0.65mm*; Footprint: Package_SON:WSON-6-1EP_2x2mm_P0.65mm_EP1x1.6mm_ThermalVias; Datasheet: http://www.ti.com/lit/ds/symlink/lp5912.pdf; Description_: 500-mA Ultra-Low-Noise Low-IQ LDO, 2.5V, WSON-6
pins: 1 OUT, 2 NC, 3 PG, 4 EN, 5 GND, 6 IN, 7 EP

## LP5912-2.8DRV
designator *  value LP5912-2.8DRV  Reference: U
500-mA Ultra-Low-Noise Low-IQ LDO, 2.8V, WSON-6; ki_keywords: Single Output LDO Low-Noise; ki_fp_filters: WSON*1EP*2x2mm*P0.65mm*; Footprint: Package_SON:WSON-6-1EP_2x2mm_P0.65mm_EP1x1.6mm_ThermalVias; Datasheet: http://www.ti.com/lit/ds/symlink/lp5912.pdf; Description_: 500-mA Ultra-Low-Noise Low-IQ LDO, 2.8V, WSON-6
pins: 1 OUT, 2 NC, 3 PG, 4 EN, 5 GND, 6 IN, 7 EP

## LP5912-3.0DRV
designator *  value LP5912-3.0DRV  Reference: U
500-mA Ultra-Low-Noise Low-IQ LDO, 3.0V, WSON-6; ki_keywords: Single Output LDO Low-Noise; ki_fp_filters: WSON*1EP*2x2mm*P0.65mm*; Footprint: Package_SON:WSON-6-1EP_2x2mm_P0.65mm_EP1x1.6mm_ThermalVias; Datasheet: http://www.ti.com/lit/ds/symlink/lp5912.pdf; Description_: 500-mA Ultra-Low-Noise Low-IQ LDO, 3.0V, WSON-6
pins: 1 OUT, 2 NC, 3 PG, 4 EN, 5 GND, 6 IN, 7 EP

## LP5912-3.3DRV
designator *  value LP5912-3.3DRV  Reference: U
500-mA Ultra-Low-Noise Low-IQ LDO, 3.3V, WSON-6; ki_keywords: Single Output LDO Low-Noise; ki_fp_filters: WSON*1EP*2x2mm*P0.65mm*; Footprint: Package_SON:WSON-6-1EP_2x2mm_P0.65mm_EP1x1.6mm_ThermalVias; Datasheet: http://www.ti.com/lit/ds/symlink/lp5912.pdf; Description_: 500-mA Ultra-Low-Noise Low-IQ LDO, 3.3V, WSON-6
pins: 1 OUT, 2 NC, 3 PG, 4 EN, 5 GND, 6 IN, 7 EP

## LP5912-5.0DRV
designator *  value LP5912-5.0DRV  Reference: U
500-mA Ultra-Low-Noise Low-IQ LDO, 5.0V, WSON-6; ki_keywords: Single Output LDO Low-Noise; ki_fp_filters: WSON*1EP*2x2mm*P0.65mm*; Footprint: Package_SON:WSON-6-1EP_2x2mm_P0.65mm_EP1x1.6mm_ThermalVias; Datasheet: http://www.ti.com/lit/ds/symlink/lp5912.pdf; Description_: 500-mA Ultra-Low-Noise Low-IQ LDO, 5.0V, WSON-6
pins: 1 OUT, 2 NC, 3 PG, 4 EN, 5 GND, 6 IN, 7 EP

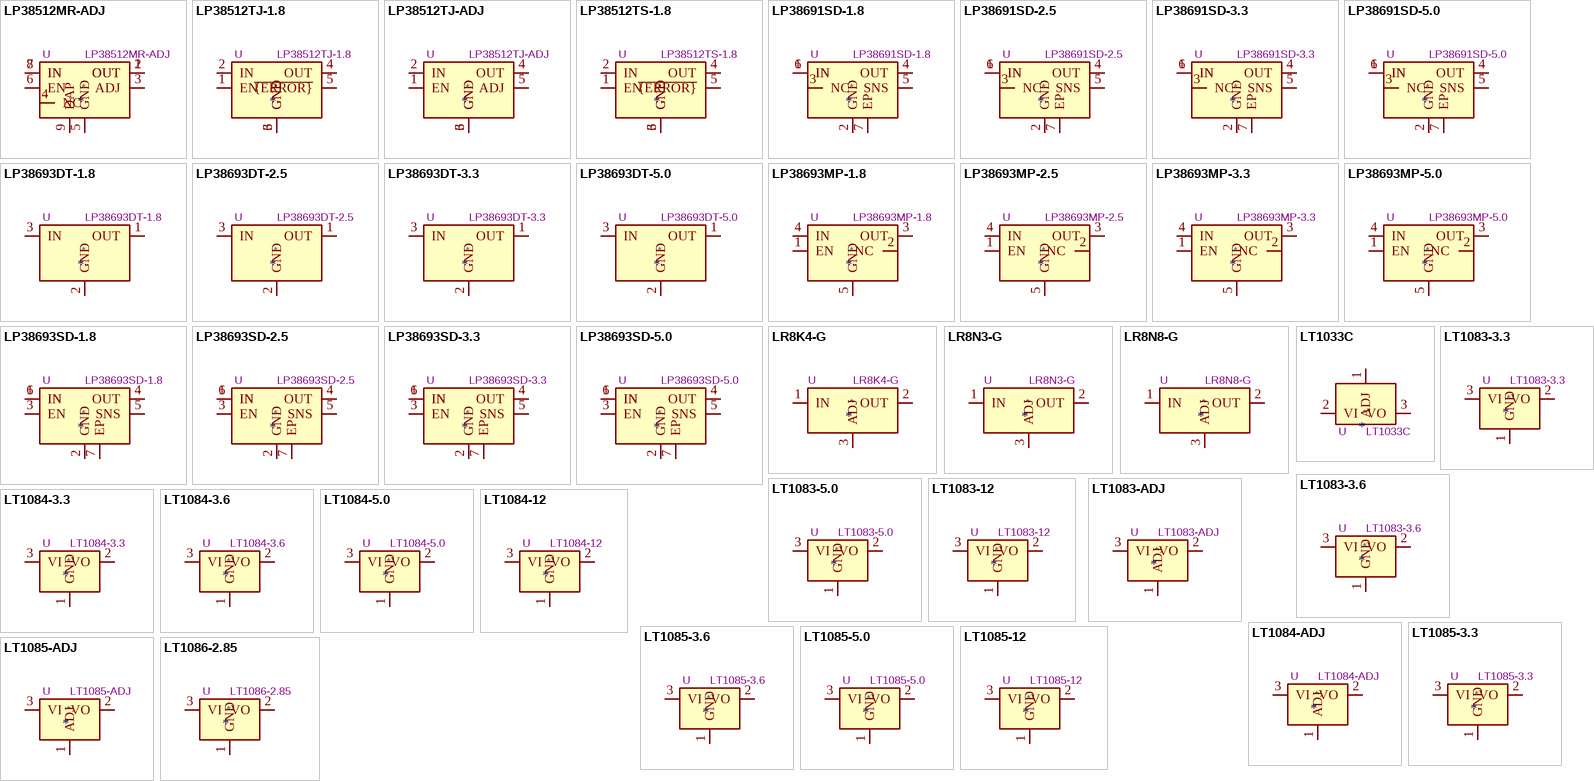
[diagram p18: symbols LP38512MR-ADJ to LT1086-2.85]

## LP38512MR-ADJ
designator *  value LP38512MR-ADJ  Reference: U
1.5A Fast-Transient Response Low-Dropout Linear Voltage Regulator with Error Flag, Adjustable Output, HTSOP-8; ki_keywords: LDO Linear Regulator; ki_fp_filters: Texas*HTSOP*1EP*3.9x4.9mm*P1.27mm*; Footprint: Package_SO:Texas_HTSOP-8-1EP_3.9x4.9mm_P1.27mm_EP2.95x4.9mm_Mask2.4x3.1mm_ThermalVias; Datasheet: http://www.ti.com/lit/ds/symlink/lp38512-adj.pdf; Description_: 1.5A Fast-Transient Response Low-Dropout Linear Voltage Regulator with Error Flag, Adjustable Output, HTSOP-8
pins: 1 OUT, 2 OUT, 3 ADJ, 4 NC, 5 GND, 6 EN, 7 IN, 8 IN, 9 DAP

## LP38512TJ-1.8
designator *  value LP38512TJ-1.8  Reference: U
1.5A Fast-Transient Response Low-Dropout Linear Voltage Regulator with Error Flag, 1.8V Output, NDQ; ki_keywords: LDO Linear Regulator; ki_fp_filters: Texas*NDQ*; Footprint: Package_TO_SOT_SMD:Texas_NDQ; Datasheet: http://www.ti.com/lit/ds/symlink/lp38512.pdf; Description_: 1.5A Fast-Transient Response Low-Dropout Linear Voltage Regulator with Error Flag, 1.8V Output, NDQ
pins: 1 EN, 2 IN, 3 GND, 4 OUT, 5 ~{{ERROR}}, 6 GND

## LP38512TJ-ADJ
designator *  value LP38512TJ-ADJ  Reference: U
1.5A Fast-Transient Response Low-Dropout Linear Voltage Regulator with Error Flag, Adjustable Output, NDQ; ki_keywords: LDO Linear Regulator; ki_fp_filters: Texas*NDQ*; Footprint: Package_TO_SOT_SMD:Texas_NDQ; Datasheet: http://www.ti.com/lit/ds/symlink/lp38512-adj.pdf; Description_: 1.5A Fast-Transient Response Low-Dropout Linear Voltage Regulator with Error Flag, Adjustable Output, NDQ
pins: 1 EN, 2 IN, 3 GND, 4 OUT, 5 ADJ, 6 GND

## LP38512TS-1.8
designator *  value LP38512TS-1.8  Reference: U
1.5A Fast-Transient Response Low-Dropout Linear Voltage Regulator with Error Flag, 1.8V Output, TO-263; ki_keywords: LDO Linear Regulator DDPAK D2PAK; ki_fp_filters: TO*263*TabPin6*; Footprint: Package_TO_SOT_SMD:TO-263-5_TabPin6; Datasheet: http://www.ti.com/lit/ds/symlink/lp38512.pdf; Description_: 1.5A Fast-Transient Response Low-Dropout Linear Voltage Regulator with Error Flag, 1.8V Output, TO-263
pins: 1 EN, 2 IN, 3 GND, 4 OUT, 5 ~{{ERROR}}, 6 GND

## LP38691SD-1.8
designator *  value LP38691SD-1.8  Reference: U
500-mA Low-Dropout CMOS Linear Regulators Stable With Ceramic Output Capacitors, 1.8V output voltage, WSON-6; ki_keywords: LDO Linear Regulator; ki_fp_filters: WSON*1EP*3x3mm*P0.95mm*; Footprint: Package_SON:WSON-6-1EP_3x3mm_P0.95mm; Datasheet: https://www.ti.com/lit/ds/symlink/lp38691.pdf; Description_: 500-mA Low-Dropout CMOS Linear Regulators Stable With Ceramic Output Capacitors, 1.8V output voltage, WSON-6
pins: 1 IN, 2 GND, 3 NC, 4 OUT, 5 SNS, 6 IN, 7 EP

## LP38691SD-2.5
designator *  value LP38691SD-2.5  Reference: U
500-mA Low-Dropout CMOS Linear Regulators Stable With Ceramic Output Capacitors, 2.5V output voltage, WSON-6; ki_keywords: LDO Linear Regulator; ki_fp_filters: WSON*1EP*3x3mm*P0.95mm*; Footprint: Package_SON:WSON-6-1EP_3x3mm_P0.95mm; Datasheet: https://www.ti.com/lit/ds/symlink/lp38691.pdf; Description_: 500-mA Low-Dropout CMOS Linear Regulators Stable With Ceramic Output Capacitors, 2.5V output voltage, WSON-6
pins: 1 IN, 2 GND, 3 NC, 4 OUT, 5 SNS, 6 IN, 7 EP

## LP38691SD-3.3
designator *  value LP38691SD-3.3  Reference: U
500-mA Low-Dropout CMOS Linear Regulators Stable With Ceramic Output Capacitors, 3.3V output voltage, WSON-6; ki_keywords: LDO Linear Regulator; ki_fp_filters: WSON*1EP*3x3mm*P0.95mm*; Footprint: Package_SON:WSON-6-1EP_3x3mm_P0.95mm; Datasheet: https://www.ti.com/lit/ds/symlink/lp38691.pdf; Description_: 500-mA Low-Dropout CMOS Linear Regulators Stable With Ceramic Output Capacitors, 3.3V output voltage, WSON-6
pins: 1 IN, 2 GND, 3 NC, 4 OUT, 5 SNS, 6 IN, 7 EP

## LP38691SD-5.0
designator *  value LP38691SD-5.0  Reference: U
500-mA Low-Dropout CMOS Linear Regulators Stable With Ceramic Output Capacitors, 5.0V output voltage, WSON-6; ki_keywords: LDO Linear Regulator; ki_fp_filters: WSON*1EP*3x3mm*P0.95mm*; Footprint: Package_SON:WSON-6-1EP_3x3mm_P0.95mm; Datasheet: https://www.ti.com/lit/ds/symlink/lp38691.pdf; Description_: 500-mA Low-Dropout CMOS Linear Regulators Stable With Ceramic Output Capacitors, 5.0V output voltage, WSON-6
pins: 1 IN, 2 GND, 3 NC, 4 OUT, 5 SNS, 6 IN, 7 EP

## LP38693DT-1.8
designator *  value LP38693DT-1.8  Reference: U
500-mA Low-Dropout CMOS Linear Regulators Stable With Ceramic Output Capacitors, 1.8V output voltage, TO-252; ki_keywords: LDO Linear Regulator; ki_fp_filters: TO*252*; Footprint: Package_TO_SOT_SMD:TO-252-2; Datasheet: https://www.ti.com/lit/ds/symlink/lp38693.pdf; Description_: 500-mA Low-Dropout CMOS Linear Regulators Stable With Ceramic Output Capacitors, 1.8V output voltage, TO-252
pins: 1 OUT, 2 GND, 3 IN

## LP38693DT-2.5
designator *  value LP38693DT-2.5  Reference: U
500-mA Low-Dropout CMOS Linear Regulators Stable With Ceramic Output Capacitors, 2.5V output voltage, TO-252; ki_keywords: LDO Linear Regulator; ki_fp_filters: TO*252*; Footprint: Package_TO_SOT_SMD:TO-252-2; Datasheet: https://www.ti.com/lit/ds/symlink/lp38693.pdf; Description_: 500-mA Low-Dropout CMOS Linear Regulators Stable With Ceramic Output Capacitors, 2.5V output voltage, TO-252
pins: 1 OUT, 2 GND, 3 IN

## LP38693DT-3.3
designator *  value LP38693DT-3.3  Reference: U
500-mA Low-Dropout CMOS Linear Regulators Stable With Ceramic Output Capacitors, 3.3V output voltage, TO-252; ki_keywords: LDO Linear Regulator; ki_fp_filters: TO*252*; Footprint: Package_TO_SOT_SMD:TO-252-2; Datasheet: https://www.ti.com/lit/ds/symlink/lp38693.pdf; Description_: 500-mA Low-Dropout CMOS Linear Regulators Stable With Ceramic Output Capacitors, 3.3V output voltage, TO-252
pins: 1 OUT, 2 GND, 3 IN

## LP38693DT-5.0
designator *  value LP38693DT-5.0  Reference: U
500-mA Low-Dropout CMOS Linear Regulators Stable With Ceramic Output Capacitors, 5.0V output voltage, TO-252; ki_keywords: LDO Linear Regulator; ki_fp_filters: TO*252*; Footprint: Package_TO_SOT_SMD:TO-252-2; Datasheet: https://www.ti.com/lit/ds/symlink/lp38693.pdf; Description_: 500-mA Low-Dropout CMOS Linear Regulators Stable With Ceramic Output Capacitors, 5.0V output voltage, TO-252
pins: 1 OUT, 2 GND, 3 IN

## LP38693MP-1.8
designator *  value LP38693MP-1.8  Reference: U
500-mA Low-Dropout CMOS Linear Regulators Stable With Ceramic Output Capacitors, 1.8V output voltage, Enable Pin, SOT-223; ki_keywords: LDO Linear Regulator; ki_fp_filters: SOT*223*; Footprint: Package_TO_SOT_SMD:SOT-223-5; Datasheet: https://www.ti.com/lit/ds/symlink/lp38693.pdf; Description_: 500-mA Low-Dropout CMOS Linear Regulators Stable With Ceramic Output Capacitors, 1.8V output voltage, Enable Pin, SOT-223
pins: 1 EN, 2 NC, 3 OUT, 4 IN, 5 GND

## LP38693MP-2.5
designator *  value LP38693MP-2.5  Reference: U
500-mA Low-Dropout CMOS Linear Regulators Stable With Ceramic Output Capacitors, 2.5V output voltage, Enable Pin, SOT-223; ki_keywords: LDO Linear Regulator; ki_fp_filters: SOT*223*; Footprint: Package_TO_SOT_SMD:SOT-223-5; Datasheet: https://www.ti.com/lit/ds/symlink/lp38693.pdf; Description_: 500-mA Low-Dropout CMOS Linear Regulators Stable With Ceramic Output Capacitors, 2.5V output voltage, Enable Pin, SOT-223
pins: 1 EN, 2 NC, 3 OUT, 4 IN, 5 GND

## LP38693MP-3.3
designator *  value LP38693MP-3.3  Reference: U
500-mA Low-Dropout CMOS Linear Regulators Stable With Ceramic Output Capacitors, 3.3V output voltage, Enable Pin, SOT-223; ki_keywords: LDO Linear Regulator; ki_fp_filters: SOT*223*; Footprint: Package_TO_SOT_SMD:SOT-223-5; Datasheet: https://www.ti.com/lit/ds/symlink/lp38693.pdf; Description_: 500-mA Low-Dropout CMOS Linear Regulators Stable With Ceramic Output Capacitors, 3.3V output voltage, Enable Pin, SOT-223
pins: 1 EN, 2 NC, 3 OUT, 4 IN, 5 GND